# Altium integrated library Linear Technology Charge_Pump.IntLib: 599 symbols (part 26 of 29)
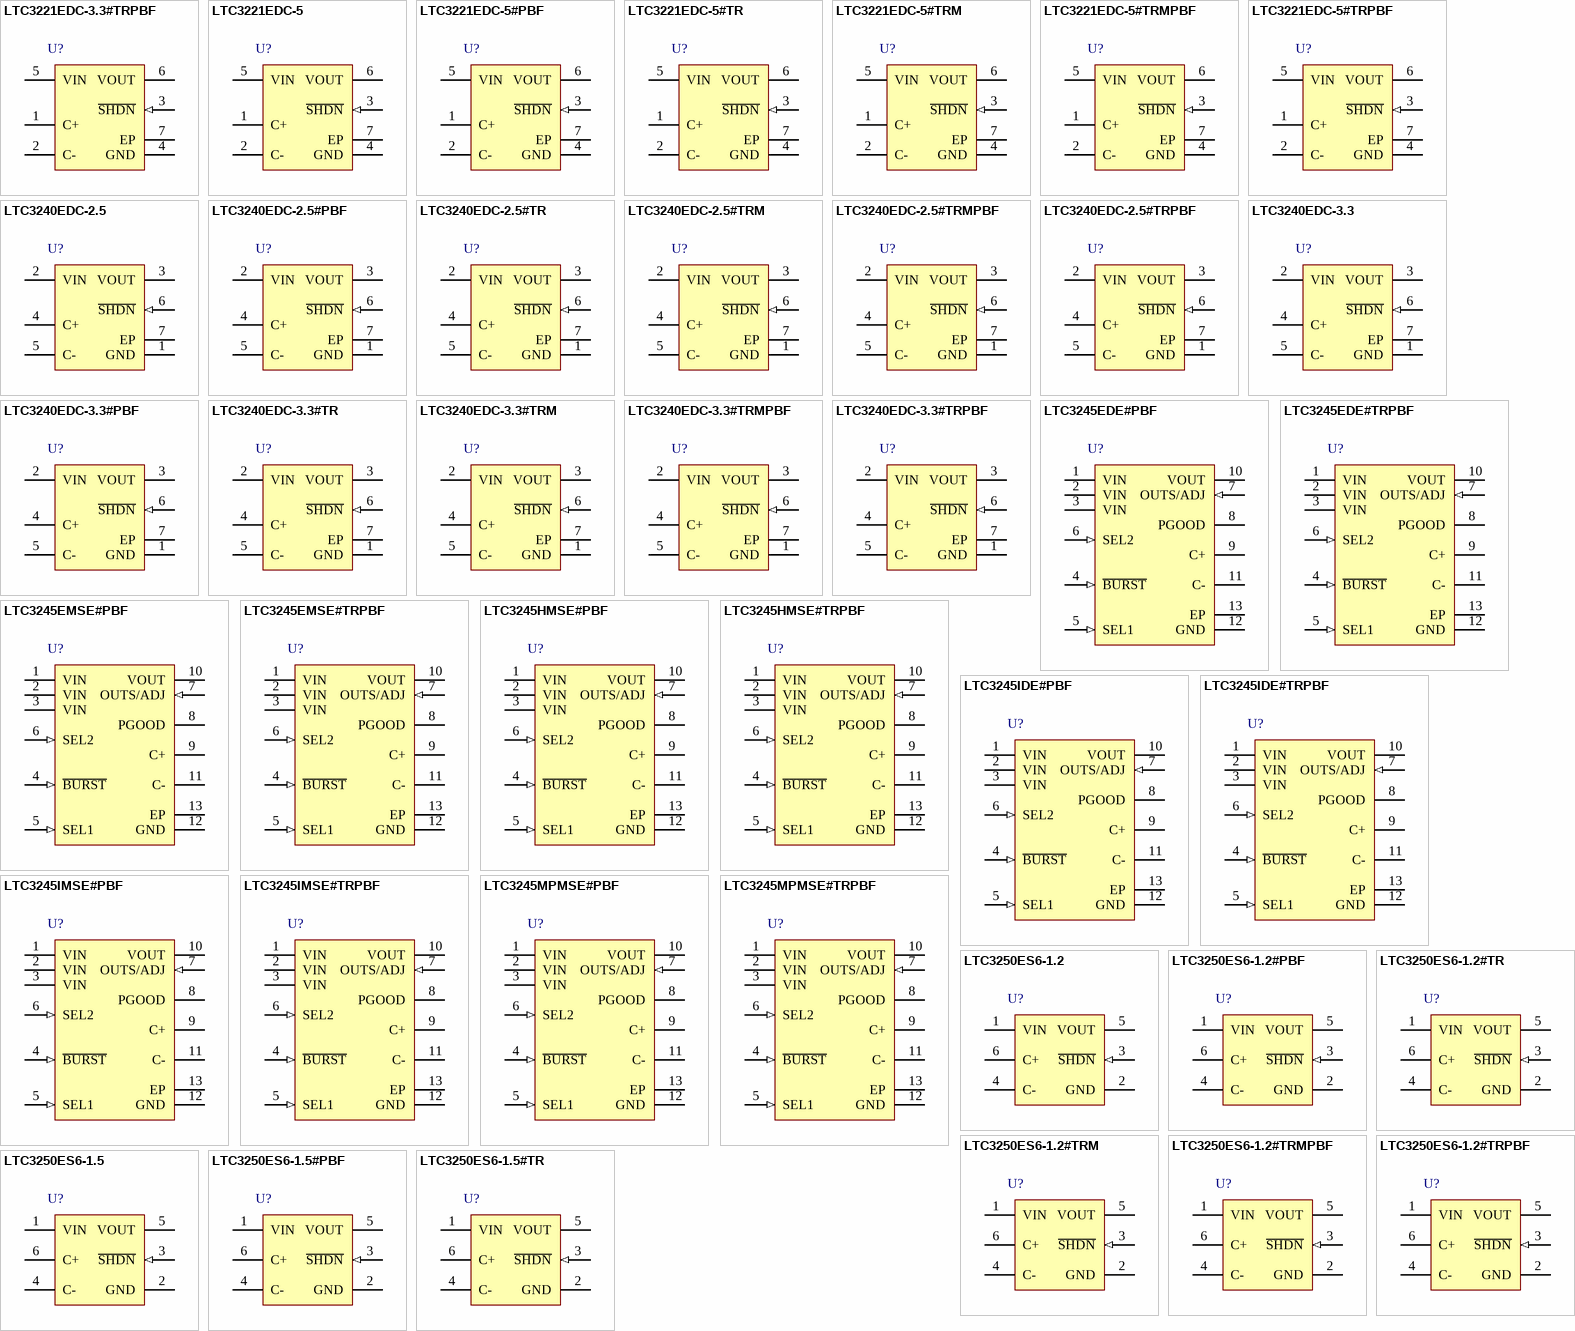
[diagram p41: symbols LTC3221EDC-3.3#TRPBF to LTC3250ES6-1.5#TR]

## LTC3245IMSE#PBF
designator U?
Wide VIN Range, Low Noise, 250 mA Buck-Boost Charge Pump, 2.7 to 38 V Vin, Fixed 3.3 / 5 V or Adjustable (2.5 to 5 V) Vout, 12-pin SOP (MSE-12-EDP), -40 to 125 degC, Pb-Free; Manufacturer: Linear Technology; PartNumber: LTC3245IMSE#PBF; Frequency(kHz): 450; Ishutdown(uA): 4; Isupply(mA): 0.018; Max Iout(mA): 250; Vin Max(V): 38; Vin Min(V): 2.7; Voutput: Fixed 3.3V, 5V or Adjustable (2.5V to 5V); DatasheetVersion: Rev. A; PackageVersion: Rev. G, 05/2013; PackageReference: MSE-12-EDP; PackageDescription: 12-Pin Plastic MSOP, Exposed Die Pad, Body 4.039 x 3 mm, Pitch 0.65 mm; Supplier 1: Digi-Key; Supplier Part Number 1: LTC3245IMSE#PBF-ND; Supplier 2: Farnell; Supplier Part Number 2: 2313439; Supplier 3: Newark; Supplier Part Number 3: 71W8458; RoHS: TRUE; Mounting Technology: Surface Mount; ComponentLink1Description: Manufacturer URL; ComponentLink1URL: http://www.linear.com/; ComponentLink2Description: Datasheet; ComponentLink2URL: http://cds.linear.com/docs/en/datasheet/3245fa.pdf; ComponentLink3Description: Package Specification; ComponentLink3URL: http://cds.linear.com/docs/en/packaging/05081666_G_MSE12.pdf
footprint LT-MSE-12-EDP_N (SOP, 12-Leads, Body 4.1x3.1mm, Pitch 0.65mm, Thermal Pad 2.95x1.76mm, IPC Medium Density)
footprint LT-MSE-12-EDP_L (SOP, 12-Leads, Body 4.1x3.1mm, Pitch 0.65mm, Thermal Pad 2.95x1.76mm, IPC High Density)
footprint LT-MSE-12-EDP_M (SOP, 12-Leads, Body 4.1x3.1mm, Pitch 0.65mm, Thermal Pad 2.95x1.76mm, IPC Low Density)
pins: 1 VIN (power) "Power Input Pins. Input voltage for both charge pump and IC control circuitry. The VIN pin operates from 2.7V to 38V. All VIN pins should be connected together at pins.", 2 VIN (power) "Power Input Pins. Input voltage for both charge pump and IC control circuitry. The VIN pin operates from 2.7V to 38V. All VIN pins should be connected together at pins.", 3 VIN (power) "Power Input Pins. Input voltage for both charge pump and IC control circuitry. The VIN pin operates from 2.7V to 38V. All VIN pins should be connected together at pins.", 4 ~{BURST} (in) "Burst Mode Logic Input. A logic high on the B\U\R\S\T\ pin operates the charge pump in low noise constant frequency. A logic low will operates the charge pump in Burst Mode operation for higher efficiency at low output (See Datasheet)", 5 SEL1 (in) "Logic Input Pin. See Table 1 for SEL1/SEL2 operating logic. The SEL1 pin has a 1uA (typical) pull-down current to ground and can tolerate 38V inputs allowing it to be pin-strapped to VIN.", 6 SEL2 (in) "Logic Input Pin. See Table 1 for SEL1/SEL2 operating logic. The SEL2 pin has a 1uA (typical) pull-down current to ground and can tolerate 38V inputs allowing it to be pin-strapped to VIN.", 7 OUTS/ADJ (in) "VOUT Sense / Adjust Input Pin. This pin acts as VOUT sense (OUTS) for 5V or 3.3V fixed outputs and adjust (ADJ) for adjustable output through external feedback. The ADJ pin servos to 1.2V when the device is enabled in (See Datasheet)", 8 PGOOD (hiz) "Power Good Open Drain Logic Output. The PGOOD pin goes high impedance when VOUT is about 6% of its final operating voltage. PGOOD is intended to be pulled up to VOUT or other low voltage supply with an external resistor.", 9 C+ "Flying Capacitor Positive Connection.", 10 VOUT (power) "Charge Pump Output Voltage. If VIN drops below its UVLO threshold, the connection from VIN becomes high impedance with no reverse leakage from VOUT to VIN. VOUT regulation only takes place above the UVLO threshold. VOUT can (See Datasheet)", 11 C- "Flying Capacitor Negative Connection.", 12 GND (power) "Ground. The exposed package pad is ground and must be soldered to the PC board ground plane for proper functionality and for rated thermal performance.", 13 EP (power) "Ground. The exposed package pad is ground and must be soldered to the PC board ground plane for proper functionality and for rated thermal performance."

## LTC3245IMSE#TRPBF
designator U?
Wide VIN Range, Low Noise, 250 mA Buck-Boost Charge Pump, 2.7 to 38 V Vin, Fixed 3.3 / 5 V or Adjustable (2.5 to 5 V) Vout, 12-pin SOP (MSE-12-EDP), -40 to 125 degC, Pb-Free, Tape and Reel; Manufacturer: Linear Technology; PartNumber: LTC3245IMSE#TRPBF; Frequency(kHz): 450; Ishutdown(uA): 4; Isupply(mA): 0.018; Max Iout(mA): 250; Vin Max(V): 38; Vin Min(V): 2.7; Voutput: Fixed 3.3V, 5V or Adjustable (2.5V to 5V); DatasheetVersion: Rev. A; PackageVersion: Rev. G, 05/2013; PackageReference: MSE-12-EDP; PackageDescription: 12-Pin Plastic MSOP, Exposed Die Pad, Body 4.039 x 3 mm, Pitch 0.65 mm; Supplier 1: Digi-Key; Supplier Part Number 1: LTC3245IMSE#TRPBF-ND; Supplier 2: Newark; Supplier Part Number 2: 71W8459; Packing: Tape and Reel; RoHS: TRUE; Mounting Technology: Surface Mount; ComponentLink1Description: Manufacturer URL; ComponentLink1URL: http://www.linear.com/; ComponentLink2Description: Datasheet; ComponentLink2URL: http://cds.linear.com/docs/en/datasheet/3245fa.pdf; ComponentLink3Description: Package Specification; ComponentLink3URL: http://cds.linear.com/docs/en/packaging/05081666_G_MSE12.pdf
footprint LT-MSE-12-EDP_N (SOP, 12-Leads, Body 4.1x3.1mm, Pitch 0.65mm, Thermal Pad 2.95x1.76mm, IPC Medium Density)
footprint LT-MSE-12-EDP_L (SOP, 12-Leads, Body 4.1x3.1mm, Pitch 0.65mm, Thermal Pad 2.95x1.76mm, IPC High Density)
footprint LT-MSE-12-EDP_M (SOP, 12-Leads, Body 4.1x3.1mm, Pitch 0.65mm, Thermal Pad 2.95x1.76mm, IPC Low Density)
pins: 1 VIN (power) "Power Input Pins. Input voltage for both charge pump and IC control circuitry. The VIN pin operates from 2.7V to 38V. All VIN pins should be connected together at pins.", 2 VIN (power) "Power Input Pins. Input voltage for both charge pump and IC control circuitry. The VIN pin operates from 2.7V to 38V. All VIN pins should be connected together at pins.", 3 VIN (power) "Power Input Pins. Input voltage for both charge pump and IC control circuitry. The VIN pin operates from 2.7V to 38V. All VIN pins should be connected together at pins.", 4 ~{BURST} (in) "Burst Mode Logic Input. A logic high on the B\U\R\S\T\ pin operates the charge pump in low noise constant frequency. A logic low will operates the charge pump in Burst Mode operation for higher efficiency at low output (See Datasheet)", 5 SEL1 (in) "Logic Input Pin. See Table 1 for SEL1/SEL2 operating logic. The SEL1 pin has a 1uA (typical) pull-down current to ground and can tolerate 38V inputs allowing it to be pin-strapped to VIN.", 6 SEL2 (in) "Logic Input Pin. See Table 1 for SEL1/SEL2 operating logic. The SEL2 pin has a 1uA (typical) pull-down current to ground and can tolerate 38V inputs allowing it to be pin-strapped to VIN.", 7 OUTS/ADJ (in) "VOUT Sense / Adjust Input Pin. This pin acts as VOUT sense (OUTS) for 5V or 3.3V fixed outputs and adjust (ADJ) for adjustable output through external feedback. The ADJ pin servos to 1.2V when the device is enabled in (See Datasheet)", 8 PGOOD (hiz) "Power Good Open Drain Logic Output. The PGOOD pin goes high impedance when VOUT is about 6% of its final operating voltage. PGOOD is intended to be pulled up to VOUT or other low voltage supply with an external resistor.", 9 C+ "Flying Capacitor Positive Connection.", 10 VOUT (power) "Charge Pump Output Voltage. If VIN drops below its UVLO threshold, the connection from VIN becomes high impedance with no reverse leakage from VOUT to VIN. VOUT regulation only takes place above the UVLO threshold. VOUT can (See Datasheet)", 11 C- "Flying Capacitor Negative Connection.", 12 GND (power) "Ground. The exposed package pad is ground and must be soldered to the PC board ground plane for proper functionality and for rated thermal performance.", 13 EP (power) "Ground. The exposed package pad is ground and must be soldered to the PC board ground plane for proper functionality and for rated thermal performance."

## LTC3245MPMSE#PBF
designator U?
Wide VIN Range, Low Noise, 250 mA Buck-Boost Charge Pump, 2.7 to 38 V Vin, Fixed 3.3 / 5 V or Adjustable (2.5 to 5 V) Vout, 12-pin SOP (MSE-12-EDP), -50 to 150 degC, Pb-Free; Manufacturer: Linear Technology; PartNumber: LTC3245MPMSE#PBF; Frequency(kHz): 450; Ishutdown(uA): 4; Isupply(mA): 0.018; Max Iout(mA): 250; Vin Max(V): 38; Vin Min(V): 2.7; Voutput: Fixed 3.3V, 5V or Adjustable (2.5V to 5V); DatasheetVersion: Rev. A; PackageVersion: Rev. G, 05/2013; PackageReference: MSE-12-EDP; PackageDescription: 12-Pin Plastic MSOP, Exposed Die Pad, Body 4.039 x 3 mm, Pitch 0.65 mm; Supplier 1: Digi-Key; Supplier Part Number 1: LTC3245MPMSE#PBF-ND; Supplier 2: Farnell; Supplier Part Number 2: 2313440; Supplier 3: Newark; Supplier Part Number 3: 87W6233; RoHS: TRUE; Mounting Technology: Surface Mount; ComponentLink1Description: Manufacturer URL; ComponentLink1URL: http://www.linear.com/; ComponentLink2Description: Datasheet; ComponentLink2URL: http://cds.linear.com/docs/en/datasheet/3245fa.pdf; ComponentLink3Description: Package Specification; ComponentLink3URL: http://cds.linear.com/docs/en/packaging/05081666_G_MSE12.pdf
footprint LT-MSE-12-EDP_N (SOP, 12-Leads, Body 4.1x3.1mm, Pitch 0.65mm, Thermal Pad 2.95x1.76mm, IPC Medium Density)
footprint LT-MSE-12-EDP_L (SOP, 12-Leads, Body 4.1x3.1mm, Pitch 0.65mm, Thermal Pad 2.95x1.76mm, IPC High Density)
footprint LT-MSE-12-EDP_M (SOP, 12-Leads, Body 4.1x3.1mm, Pitch 0.65mm, Thermal Pad 2.95x1.76mm, IPC Low Density)
pins: 1 VIN (power) "Power Input Pins. Input voltage for both charge pump and IC control circuitry. The VIN pin operates from 2.7V to 38V. All VIN pins should be connected together at pins.", 2 VIN (power) "Power Input Pins. Input voltage for both charge pump and IC control circuitry. The VIN pin operates from 2.7V to 38V. All VIN pins should be connected together at pins.", 3 VIN (power) "Power Input Pins. Input voltage for both charge pump and IC control circuitry. The VIN pin operates from 2.7V to 38V. All VIN pins should be connected together at pins.", 4 ~{BURST} (in) "Burst Mode Logic Input. A logic high on the B\U\R\S\T\ pin operates the charge pump in low noise constant frequency. A logic low will operates the charge pump in Burst Mode operation for higher efficiency at low output (See Datasheet)", 5 SEL1 (in) "Logic Input Pin. See Table 1 for SEL1/SEL2 operating logic. The SEL1 pin has a 1uA (typical) pull-down current to ground and can tolerate 38V inputs allowing it to be pin-strapped to VIN.", 6 SEL2 (in) "Logic Input Pin. See Table 1 for SEL1/SEL2 operating logic. The SEL2 pin has a 1uA (typical) pull-down current to ground and can tolerate 38V inputs allowing it to be pin-strapped to VIN.", 7 OUTS/ADJ (in) "VOUT Sense / Adjust Input Pin. This pin acts as VOUT sense (OUTS) for 5V or 3.3V fixed outputs and adjust (ADJ) for adjustable output through external feedback. The ADJ pin servos to 1.2V when the device is enabled in (See Datasheet)", 8 PGOOD (hiz) "Power Good Open Drain Logic Output. The PGOOD pin goes high impedance when VOUT is about 6% of its final operating voltage. PGOOD is intended to be pulled up to VOUT or other low voltage supply with an external resistor.", 9 C+ "Flying Capacitor Positive Connection.", 10 VOUT (power) "Charge Pump Output Voltage. If VIN drops below its UVLO threshold, the connection from VIN becomes high impedance with no reverse leakage from VOUT to VIN. VOUT regulation only takes place above the UVLO threshold. VOUT can (See Datasheet)", 11 C- "Flying Capacitor Negative Connection.", 12 GND (power) "Ground. The exposed package pad is ground and must be soldered to the PC board ground plane for proper functionality and for rated thermal performance.", 13 EP (power) "Ground. The exposed package pad is ground and must be soldered to the PC board ground plane for proper functionality and for rated thermal performance."

## LTC3245MPMSE#TRPBF
designator U?
Wide VIN Range, Low Noise, 250 mA Buck-Boost Charge Pump, 2.7 to 38 V Vin, Fixed 3.3 / 5 V or Adjustable (2.5 to 5 V) Vout, 12-pin SOP (MSE-12-EDP), -50 to 150 degC, Pb-Free, Tape and Reel; Manufacturer: Linear Technology; PartNumber: LTC3245MPMSE#TRPBF; Frequency(kHz): 450; Ishutdown(uA): 4; Isupply(mA): 0.018; Max Iout(mA): 250; Vin Max(V): 38; Vin Min(V): 2.7; Voutput: Fixed 3.3V, 5V or Adjustable (2.5V to 5V); DatasheetVersion: Rev. A; PackageVersion: Rev. G, 05/2013; PackageReference: MSE-12-EDP; PackageDescription: 12-Pin Plastic MSOP, Exposed Die Pad, Body 4.039 x 3 mm, Pitch 0.65 mm; Supplier 1: Digi-Key; Supplier Part Number 1: LTC3245MPMSE#TRPBF-ND; Supplier 2: Newark; Supplier Part Number 2: 87W6234; Packing: Tape and Reel; RoHS: TRUE; Mounting Technology: Surface Mount; ComponentLink1Description: Manufacturer URL; ComponentLink1URL: http://www.linear.com/; ComponentLink2Description: Datasheet; ComponentLink2URL: http://cds.linear.com/docs/en/datasheet/3245fa.pdf; ComponentLink3Description: Package Specification; ComponentLink3URL: http://cds.linear.com/docs/en/packaging/05081666_G_MSE12.pdf
footprint LT-MSE-12-EDP_N (SOP, 12-Leads, Body 4.1x3.1mm, Pitch 0.65mm, Thermal Pad 2.95x1.76mm, IPC Medium Density)
footprint LT-MSE-12-EDP_L (SOP, 12-Leads, Body 4.1x3.1mm, Pitch 0.65mm, Thermal Pad 2.95x1.76mm, IPC High Density)
footprint LT-MSE-12-EDP_M (SOP, 12-Leads, Body 4.1x3.1mm, Pitch 0.65mm, Thermal Pad 2.95x1.76mm, IPC Low Density)
pins: 1 VIN (power) "Power Input Pins. Input voltage for both charge pump and IC control circuitry. The VIN pin operates from 2.7V to 38V. All VIN pins should be connected together at pins.", 2 VIN (power) "Power Input Pins. Input voltage for both charge pump and IC control circuitry. The VIN pin operates from 2.7V to 38V. All VIN pins should be connected together at pins.", 3 VIN (power) "Power Input Pins. Input voltage for both charge pump and IC control circuitry. The VIN pin operates from 2.7V to 38V. All VIN pins should be connected together at pins.", 4 ~{BURST} (in) "Burst Mode Logic Input. A logic high on the B\U\R\S\T\ pin operates the charge pump in low noise constant frequency. A logic low will operates the charge pump in Burst Mode operation for higher efficiency at low output (See Datasheet)", 5 SEL1 (in) "Logic Input Pin. See Table 1 for SEL1/SEL2 operating logic. The SEL1 pin has a 1uA (typical) pull-down current to ground and can tolerate 38V inputs allowing it to be pin-strapped to VIN.", 6 SEL2 (in) "Logic Input Pin. See Table 1 for SEL1/SEL2 operating logic. The SEL2 pin has a 1uA (typical) pull-down current to ground and can tolerate 38V inputs allowing it to be pin-strapped to VIN.", 7 OUTS/ADJ (in) "VOUT Sense / Adjust Input Pin. This pin acts as VOUT sense (OUTS) for 5V or 3.3V fixed outputs and adjust (ADJ) for adjustable output through external feedback. The ADJ pin servos to 1.2V when the device is enabled in (See Datasheet)", 8 PGOOD (hiz) "Power Good Open Drain Logic Output. The PGOOD pin goes high impedance when VOUT is about 6% of its final operating voltage. PGOOD is intended to be pulled up to VOUT or other low voltage supply with an external resistor.", 9 C+ "Flying Capacitor Positive Connection.", 10 VOUT (power) "Charge Pump Output Voltage. If VIN drops below its UVLO threshold, the connection from VIN becomes high impedance with no reverse leakage from VOUT to VIN. VOUT regulation only takes place above the UVLO threshold. VOUT can (See Datasheet)", 11 C- "Flying Capacitor Negative Connection.", 12 GND (power) "Ground. The exposed package pad is ground and must be soldered to the PC board ground plane for proper functionality and for rated thermal performance.", 13 EP (power) "Ground. The exposed package pad is ground and must be soldered to the PC board ground plane for proper functionality and for rated thermal performance."

## LTC3250ES6-1.2
designator U?
High Efficiency, Low Noise, Inductorless Step-Down DC/DC Converter, 2.7 to 5.5 V Vin, 1.2 V Vout, 6-pin SOT23 (S6-6), -40 to 85 degC; Manufacturer: Linear Technology; PartNumber: LTC3250ES6-1.2; Frequency(kHz): 1500; Ishutdown(uA): 0.01; Isupply(mA): 0.035; Max Iout(mA): 250; Vin Max(V): 5.5; Vin Min(V): 2.7; Voutput: 1.2V; DatasheetVersion: Rev. A; PackageVersion: Jun-10; PackageReference: S6-6; PackageDescription: 6-Pin Plastic TSOT-23, Body 2.9 x 1.63 mm, Pitch 0.95 mm; RoHS: FALSE; Mounting Technology: Surface Mount; Code_JEDEC: MO-193; ComponentLink1Description: Manufacturer URL; ComponentLink1URL: http://www.linear.com/; ComponentLink2Description: Datasheet; ComponentLink2URL: http://cds.linear.com/docs/en/datasheet/3250fa.pdf; ComponentLink3Description: Package Specification; ComponentLink3URL: http://cds.linear.com/docs/en/packaging/SOT_6_05-08-1636.pdf
footprint LT-S6-6-TSOT-23_N (SOT23, 6-Leads, Body 2.9x1.75mm, Pitch 0.95mm, IPC Medium Density)
footprint LT-S6-6-TSOT-23_L (SOT23, 6-Leads, Body 2.9x1.75mm, Pitch 0.95mm, IPC High Density)
footprint LT-S6-6-TSOT-23_M (SOT23, 6-Leads, Body 2.9x1.75mm, Pitch 0.95mm, IPC Low Density)
pins: 1 VIN (power) "Input Supply Voltage. Bypass VIN with a >=1uF low ESR ceramic capacitor.", 2 GND (power) "Ground. Connect to a ground plane for best performance.", 3 ~{SHDN} (in) "Active Low Shutdown Input. A low voltage on S\H\D\N\ disables the LTC3250-1.5/LTC3250-1.2. S\H\D\N\ must not be allowed to float", 4 C- "Flying Capacitor Negative Terminal", 5 VOUT (power) "Regulated Output Voltage. VOUT is disconnected from VIN during shutdown. Bypass VOUT with a >=4.7uF low ESR ceramic capacitor (2.5uF min, ESR<100mohm).", 6 C+ "Flying Capacitor Positive Terminal."

## LTC3250ES6-1.2#PBF
designator U?
High Efficiency, Low Noise, Inductorless Step-Down DC/DC Converter, 2.7 to 5.5 V Vin, 1.2 V Vout, 6-pin SOT23 (S6-6), -40 to 85 degC, Pb-Free; Manufacturer: Linear Technology; PartNumber: LTC3250ES6-1.2#PBF; Frequency(kHz): 1500; Ishutdown(uA): 0.01; Isupply(mA): 0.035; Max Iout(mA): 250; Vin Max(V): 5.5; Vin Min(V): 2.7; Voutput: 1.2V; DatasheetVersion: Rev. A; PackageVersion: Jun-10; PackageReference: S6-6; PackageDescription: 6-Pin Plastic TSOT-23, Body 2.9 x 1.63 mm, Pitch 0.95 mm; RoHS: TRUE; Mounting Technology: Surface Mount; Code_JEDEC: MO-193; ComponentLink1Description: Manufacturer URL; ComponentLink1URL: http://www.linear.com/; ComponentLink2Description: Datasheet; ComponentLink2URL: http://cds.linear.com/docs/en/datasheet/3250fa.pdf; ComponentLink3Description: Package Specification; ComponentLink3URL: http://cds.linear.com/docs/en/packaging/SOT_6_05-08-1636.pdf
footprint LT-S6-6-TSOT-23_N (SOT23, 6-Leads, Body 2.9x1.75mm, Pitch 0.95mm, IPC Medium Density)
footprint LT-S6-6-TSOT-23_L (SOT23, 6-Leads, Body 2.9x1.75mm, Pitch 0.95mm, IPC High Density)
footprint LT-S6-6-TSOT-23_M (SOT23, 6-Leads, Body 2.9x1.75mm, Pitch 0.95mm, IPC Low Density)
pins: 1 VIN (power) "Input Supply Voltage. Bypass VIN with a >=1uF low ESR ceramic capacitor.", 2 GND (power) "Ground. Connect to a ground plane for best performance.", 3 ~{SHDN} (in) "Active Low Shutdown Input. A low voltage on S\H\D\N\ disables the LTC3250-1.5/LTC3250-1.2. S\H\D\N\ must not be allowed to float", 4 C- "Flying Capacitor Negative Terminal", 5 VOUT (power) "Regulated Output Voltage. VOUT is disconnected from VIN during shutdown. Bypass VOUT with a >=4.7uF low ESR ceramic capacitor (2.5uF min, ESR<100mohm).", 6 C+ "Flying Capacitor Positive Terminal."

## LTC3250ES6-1.2#TR
designator U?
High Efficiency, Low Noise, Inductorless Step-Down DC/DC Converter, 2.7 to 5.5 V Vin, 1.2 V Vout, 6-pin SOT23 (S6-6), -40 to 85 degC, Tape and Reel; Manufacturer: Linear Technology; PartNumber: LTC3250ES6-1.2#TR; Frequency(kHz): 1500; Ishutdown(uA): 0.01; Isupply(mA): 0.035; Max Iout(mA): 250; Vin Max(V): 5.5; Vin Min(V): 2.7; Voutput: 1.2V; DatasheetVersion: Rev. A; PackageVersion: Jun-10; PackageReference: S6-6; PackageDescription: 6-Pin Plastic TSOT-23, Body 2.9 x 1.63 mm, Pitch 0.95 mm; Supplier 1: Digi-Key; Supplier Part Number 1: LTC3250ES6-1.2#TR-ND; Packing: Tape and Reel; RoHS: FALSE; Mounting Technology: Surface Mount; Code_JEDEC: MO-193; ComponentLink1Description: Manufacturer URL; ComponentLink1URL: http://www.linear.com/; ComponentLink2Description: Datasheet; ComponentLink2URL: http://cds.linear.com/docs/en/datasheet/3250fa.pdf; ComponentLink3Description: Package Specification; ComponentLink3URL: http://cds.linear.com/docs/en/packaging/SOT_6_05-08-1636.pdf
footprint LT-S6-6-TSOT-23_N (SOT23, 6-Leads, Body 2.9x1.75mm, Pitch 0.95mm, IPC Medium Density)
footprint LT-S6-6-TSOT-23_L (SOT23, 6-Leads, Body 2.9x1.75mm, Pitch 0.95mm, IPC High Density)
footprint LT-S6-6-TSOT-23_M (SOT23, 6-Leads, Body 2.9x1.75mm, Pitch 0.95mm, IPC Low Density)
pins: 1 VIN (power) "Input Supply Voltage. Bypass VIN with a >=1uF low ESR ceramic capacitor.", 2 GND (power) "Ground. Connect to a ground plane for best performance.", 3 ~{SHDN} (in) "Active Low Shutdown Input. A low voltage on S\H\D\N\ disables the LTC3250-1.5/LTC3250-1.2. S\H\D\N\ must not be allowed to float", 4 C- "Flying Capacitor Negative Terminal", 5 VOUT (power) "Regulated Output Voltage. VOUT is disconnected from VIN during shutdown. Bypass VOUT with a >=4.7uF low ESR ceramic capacitor (2.5uF min, ESR<100mohm).", 6 C+ "Flying Capacitor Positive Terminal."

## LTC3250ES6-1.2#TRM
designator U?
High Efficiency, Low Noise, Inductorless Step-Down DC/DC Converter, 2.7 to 5.5 V Vin, 1.2 V Vout, 6-pin SOT23 (S6-6), -40 to 85 degC, Mini Tape and Reel; Manufacturer: Linear Technology; PartNumber: LTC3250ES6-1.2#TRM; Frequency(kHz): 1500; Ishutdown(uA): 0.01; Isupply(mA): 0.035; Max Iout(mA): 250; Vin Max(V): 5.5; Vin Min(V): 2.7; Voutput: 1.2V; DatasheetVersion: Rev. A; PackageVersion: Jun-10; PackageReference: S6-6; PackageDescription: 6-Pin Plastic TSOT-23, Body 2.9 x 1.63 mm, Pitch 0.95 mm; Supplier 1: Digi-Key; Supplier Part Number 1: LTC3250ES6-1.2#TRM-ND; Packing: Mini Tape and Reel; RoHS: FALSE; Mounting Technology: Surface Mount; Code_JEDEC: MO-193; ComponentLink1Description: Manufacturer URL; ComponentLink1URL: http://www.linear.com/; ComponentLink2Description: Datasheet; ComponentLink2URL: http://cds.linear.com/docs/en/datasheet/3250fa.pdf; ComponentLink3Description: Package Specification; ComponentLink3URL: http://cds.linear.com/docs/en/packaging/SOT_6_05-08-1636.pdf
footprint LT-S6-6-TSOT-23_N (SOT23, 6-Leads, Body 2.9x1.75mm, Pitch 0.95mm, IPC Medium Density)
footprint LT-S6-6-TSOT-23_L (SOT23, 6-Leads, Body 2.9x1.75mm, Pitch 0.95mm, IPC High Density)
footprint LT-S6-6-TSOT-23_M (SOT23, 6-Leads, Body 2.9x1.75mm, Pitch 0.95mm, IPC Low Density)
pins: 1 VIN (power) "Input Supply Voltage. Bypass VIN with a >=1uF low ESR ceramic capacitor.", 2 GND (power) "Ground. Connect to a ground plane for best performance.", 3 ~{SHDN} (in) "Active Low Shutdown Input. A low voltage on S\H\D\N\ disables the LTC3250-1.5/LTC3250-1.2. S\H\D\N\ must not be allowed to float", 4 C- "Flying Capacitor Negative Terminal", 5 VOUT (power) "Regulated Output Voltage. VOUT is disconnected from VIN during shutdown. Bypass VOUT with a >=4.7uF low ESR ceramic capacitor (2.5uF min, ESR<100mohm).", 6 C+ "Flying Capacitor Positive Terminal."

## LTC3250ES6-1.2#TRMPBF
designator U?
High Efficiency, Low Noise, Inductorless Step-Down DC/DC Converter, 2.7 to 5.5 V Vin, 1.2 V Vout, 6-pin SOT23 (S6-6), -40 to 85 degC, Pb-Free, Mini Tape and Reel; Manufacturer: Linear Technology; PartNumber: LTC3250ES6-1.2#TRMPBF; Frequency(kHz): 1500; Ishutdown(uA): 0.01; Isupply(mA): 0.035; Max Iout(mA): 250; Vin Max(V): 5.5; Vin Min(V): 2.7; Voutput: 1.2V; DatasheetVersion: Rev. A; PackageVersion: Jun-10; PackageReference: S6-6; PackageDescription: 6-Pin Plastic TSOT-23, Body 2.9 x 1.63 mm, Pitch 0.95 mm; Supplier 1: Digi-Key; Supplier Part Number 1: LTC3250ES6-1.2#TRMPBF-ND; Packing: Mini Tape and Reel; RoHS: TRUE; Mounting Technology: Surface Mount; Code_JEDEC: MO-193; ComponentLink1Description: Manufacturer URL; ComponentLink1URL: http://www.linear.com/; ComponentLink2Description: Datasheet; ComponentLink2URL: http://cds.linear.com/docs/en/datasheet/3250fa.pdf; ComponentLink3Description: Package Specification; ComponentLink3URL: http://cds.linear.com/docs/en/packaging/SOT_6_05-08-1636.pdf
footprint LT-S6-6-TSOT-23_N (SOT23, 6-Leads, Body 2.9x1.75mm, Pitch 0.95mm, IPC Medium Density)
footprint LT-S6-6-TSOT-23_L (SOT23, 6-Leads, Body 2.9x1.75mm, Pitch 0.95mm, IPC High Density)
footprint LT-S6-6-TSOT-23_M (SOT23, 6-Leads, Body 2.9x1.75mm, Pitch 0.95mm, IPC Low Density)
pins: 1 VIN (power) "Input Supply Voltage. Bypass VIN with a >=1uF low ESR ceramic capacitor.", 2 GND (power) "Ground. Connect to a ground plane for best performance.", 3 ~{SHDN} (in) "Active Low Shutdown Input. A low voltage on S\H\D\N\ disables the LTC3250-1.5/LTC3250-1.2. S\H\D\N\ must not be allowed to float", 4 C- "Flying Capacitor Negative Terminal", 5 VOUT (power) "Regulated Output Voltage. VOUT is disconnected from VIN during shutdown. Bypass VOUT with a >=4.7uF low ESR ceramic capacitor (2.5uF min, ESR<100mohm).", 6 C+ "Flying Capacitor Positive Terminal."

## LTC3250ES6-1.2#TRPBF
designator U?
High Efficiency, Low Noise, Inductorless Step-Down DC/DC Converter, 2.7 to 5.5 V Vin, 1.2 V Vout, 6-pin SOT23 (S6-6), -40 to 85 degC, Pb-Free, Tape and Reel; Manufacturer: Linear Technology; PartNumber: LTC3250ES6-1.2#TRPBF; Frequency(kHz): 1500; Ishutdown(uA): 0.01; Isupply(mA): 0.035; Max Iout(mA): 250; Vin Max(V): 5.5; Vin Min(V): 2.7; Voutput: 1.2V; DatasheetVersion: Rev. A; PackageVersion: Jun-10; PackageReference: S6-6; PackageDescription: 6-Pin Plastic TSOT-23, Body 2.9 x 1.63 mm, Pitch 0.95 mm; Supplier 1: Digi-Key; Supplier Part Number 1: LTC3250ES6-1.2#TRPBF-ND; Packing: Tape and Reel; RoHS: TRUE; Mounting Technology: Surface Mount; Code_JEDEC: MO-193; ComponentLink1Description: Manufacturer URL; ComponentLink1URL: http://www.linear.com/; ComponentLink2Description: Datasheet; ComponentLink2URL: http://cds.linear.com/docs/en/datasheet/3250fa.pdf; ComponentLink3Description: Package Specification; ComponentLink3URL: http://cds.linear.com/docs/en/packaging/SOT_6_05-08-1636.pdf
footprint LT-S6-6-TSOT-23_N (SOT23, 6-Leads, Body 2.9x1.75mm, Pitch 0.95mm, IPC Medium Density)
footprint LT-S6-6-TSOT-23_L (SOT23, 6-Leads, Body 2.9x1.75mm, Pitch 0.95mm, IPC High Density)
footprint LT-S6-6-TSOT-23_M (SOT23, 6-Leads, Body 2.9x1.75mm, Pitch 0.95mm, IPC Low Density)
pins: 1 VIN (power) "Input Supply Voltage. Bypass VIN with a >=1uF low ESR ceramic capacitor.", 2 GND (power) "Ground. Connect to a ground plane for best performance.", 3 ~{SHDN} (in) "Active Low Shutdown Input. A low voltage on S\H\D\N\ disables the LTC3250-1.5/LTC3250-1.2. S\H\D\N\ must not be allowed to float", 4 C- "Flying Capacitor Negative Terminal", 5 VOUT (power) "Regulated Output Voltage. VOUT is disconnected from VIN during shutdown. Bypass VOUT with a >=4.7uF low ESR ceramic capacitor (2.5uF min, ESR<100mohm).", 6 C+ "Flying Capacitor Positive Terminal."

## LTC3250ES6-1.5
designator U?
High Efficiency, Low Noise, Inductorless Step-Down DC/DC Converter, 3.1 to 5.5 V Vin, 1.5 V Vout, 6-pin SOT23 (S6-6), -40 to 85 degC; Manufacturer: Linear Technology; PartNumber: LTC3250ES6-1.5; Frequency(kHz): 1500; Ishutdown(uA): 0.01; Isupply(mA): 0.035; Max Iout(mA): 250; Vin Max(V): 5.5; Vin Min(V): 3.1; Voutput: 1.5V; DatasheetVersion: Rev. A; PackageVersion: Jun-10; PackageReference: S6-6; PackageDescription: 6-Pin Plastic TSOT-23, Body 2.9 x 1.63 mm, Pitch 0.95 mm; RoHS: FALSE; Mounting Technology: Surface Mount; Code_JEDEC: MO-193; ComponentLink1Description: Manufacturer URL; ComponentLink1URL: http://www.linear.com/; ComponentLink2Description: Datasheet; ComponentLink2URL: http://cds.linear.com/docs/en/datasheet/3250fa.pdf; ComponentLink3Description: Package Specification; ComponentLink3URL: http://cds.linear.com/docs/en/packaging/SOT_6_05-08-1636.pdf
footprint LT-S6-6-TSOT-23_N (SOT23, 6-Leads, Body 2.9x1.75mm, Pitch 0.95mm, IPC Medium Density)
footprint LT-S6-6-TSOT-23_L (SOT23, 6-Leads, Body 2.9x1.75mm, Pitch 0.95mm, IPC High Density)
footprint LT-S6-6-TSOT-23_M (SOT23, 6-Leads, Body 2.9x1.75mm, Pitch 0.95mm, IPC Low Density)
pins: 1 VIN (power) "Input Supply Voltage. Bypass VIN with a >=1uF low ESR ceramic capacitor.", 2 GND (power) "Ground. Connect to a ground plane for best performance.", 3 ~{SHDN} (in) "Active Low Shutdown Input. A low voltage on S\H\D\N\ disables the LTC3250-1.5/LTC3250-1.2. S\H\D\N\ must not be allowed to float", 4 C- "Flying Capacitor Negative Terminal", 5 VOUT (power) "Regulated Output Voltage. VOUT is disconnected from VIN during shutdown. Bypass VOUT with a >=4.7uF low ESR ceramic capacitor (2.5uF min, ESR<100mohm).", 6 C+ "Flying Capacitor Positive Terminal."

## LTC3250ES6-1.5#PBF
designator U?
High Efficiency, Low Noise, Inductorless Step-Down DC/DC Converter, 3.1 to 5.5 V Vin, 1.5 V Vout, 6-pin SOT23 (S6-6), -40 to 85 degC, Pb-Free; Manufacturer: Linear Technology; PartNumber: LTC3250ES6-1.5#PBF; Frequency(kHz): 1500; Ishutdown(uA): 0.01; Isupply(mA): 0.035; Max Iout(mA): 250; Vin Max(V): 5.5; Vin Min(V): 3.1; Voutput: 1.5V; DatasheetVersion: Rev. A; PackageVersion: Jun-10; PackageReference: S6-6; PackageDescription: 6-Pin Plastic TSOT-23, Body 2.9 x 1.63 mm, Pitch 0.95 mm; RoHS: TRUE; Mounting Technology: Surface Mount; Code_JEDEC: MO-193; ComponentLink1Description: Manufacturer URL; ComponentLink1URL: http://www.linear.com/; ComponentLink2Description: Datasheet; ComponentLink2URL: http://cds.linear.com/docs/en/datasheet/3250fa.pdf; ComponentLink3Description: Package Specification; ComponentLink3URL: http://cds.linear.com/docs/en/packaging/SOT_6_05-08-1636.pdf
footprint LT-S6-6-TSOT-23_N (SOT23, 6-Leads, Body 2.9x1.75mm, Pitch 0.95mm, IPC Medium Density)
footprint LT-S6-6-TSOT-23_L (SOT23, 6-Leads, Body 2.9x1.75mm, Pitch 0.95mm, IPC High Density)
footprint LT-S6-6-TSOT-23_M (SOT23, 6-Leads, Body 2.9x1.75mm, Pitch 0.95mm, IPC Low Density)
pins: 1 VIN (power) "Input Supply Voltage. Bypass VIN with a >=1uF low ESR ceramic capacitor.", 2 GND (power) "Ground. Connect to a ground plane for best performance.", 3 ~{SHDN} (in) "Active Low Shutdown Input. A low voltage on S\H\D\N\ disables the LTC3250-1.5/LTC3250-1.2. S\H\D\N\ must not be allowed to float", 4 C- "Flying Capacitor Negative Terminal", 5 VOUT (power) "Regulated Output Voltage. VOUT is disconnected from VIN during shutdown. Bypass VOUT with a >=4.7uF low ESR ceramic capacitor (2.5uF min, ESR<100mohm).", 6 C+ "Flying Capacitor Positive Terminal."

## LTC3250ES6-1.5#TR
designator U?
High Efficiency, Low Noise, Inductorless Step-Down DC/DC Converter, 3.1 to 5.5 V Vin, 1.5 V Vout, 6-pin SOT23 (S6-6), -40 to 85 degC, Tape and Reel; Manufacturer: Linear Technology; PartNumber: LTC3250ES6-1.5#TR; Frequency(kHz): 1500; Ishutdown(uA): 0.01; Isupply(mA): 0.035; Max Iout(mA): 250; Vin Max(V): 5.5; Vin Min(V): 3.1; Voutput: 1.5V; DatasheetVersion: Rev. A; PackageVersion: Jun-10; PackageReference: S6-6; PackageDescription: 6-Pin Plastic TSOT-23, Body 2.9 x 1.63 mm, Pitch 0.95 mm; Supplier 1: Digi-Key; Supplier Part Number 1: LTC3250ES6-1.5TR-ND; Packing: Tape and Reel; RoHS: FALSE; Mounting Technology: Surface Mount; Code_JEDEC: MO-193; ComponentLink1Description: Manufacturer URL; ComponentLink1URL: http://www.linear.com/; ComponentLink2Description: Datasheet; ComponentLink2URL: http://cds.linear.com/docs/en/datasheet/3250fa.pdf; ComponentLink3Description: Package Specification; ComponentLink3URL: http://cds.linear.com/docs/en/packaging/SOT_6_05-08-1636.pdf
footprint LT-S6-6-TSOT-23_N (SOT23, 6-Leads, Body 2.9x1.75mm, Pitch 0.95mm, IPC Medium Density)
footprint LT-S6-6-TSOT-23_L (SOT23, 6-Leads, Body 2.9x1.75mm, Pitch 0.95mm, IPC High Density)
footprint LT-S6-6-TSOT-23_M (SOT23, 6-Leads, Body 2.9x1.75mm, Pitch 0.95mm, IPC Low Density)
pins: 1 VIN (power) "Input Supply Voltage. Bypass VIN with a >=1uF low ESR ceramic capacitor.", 2 GND (power) "Ground. Connect to a ground plane for best performance.", 3 ~{SHDN} (in) "Active Low Shutdown Input. A low voltage on S\H\D\N\ disables the LTC3250-1.5/LTC3250-1.2. S\H\D\N\ must not be allowed to float", 4 C- "Flying Capacitor Negative Terminal", 5 VOUT (power) "Regulated Output Voltage. VOUT is disconnected from VIN during shutdown. Bypass VOUT with a >=4.7uF low ESR ceramic capacitor (2.5uF min, ESR<100mohm).", 6 C+ "Flying Capacitor Positive Terminal."

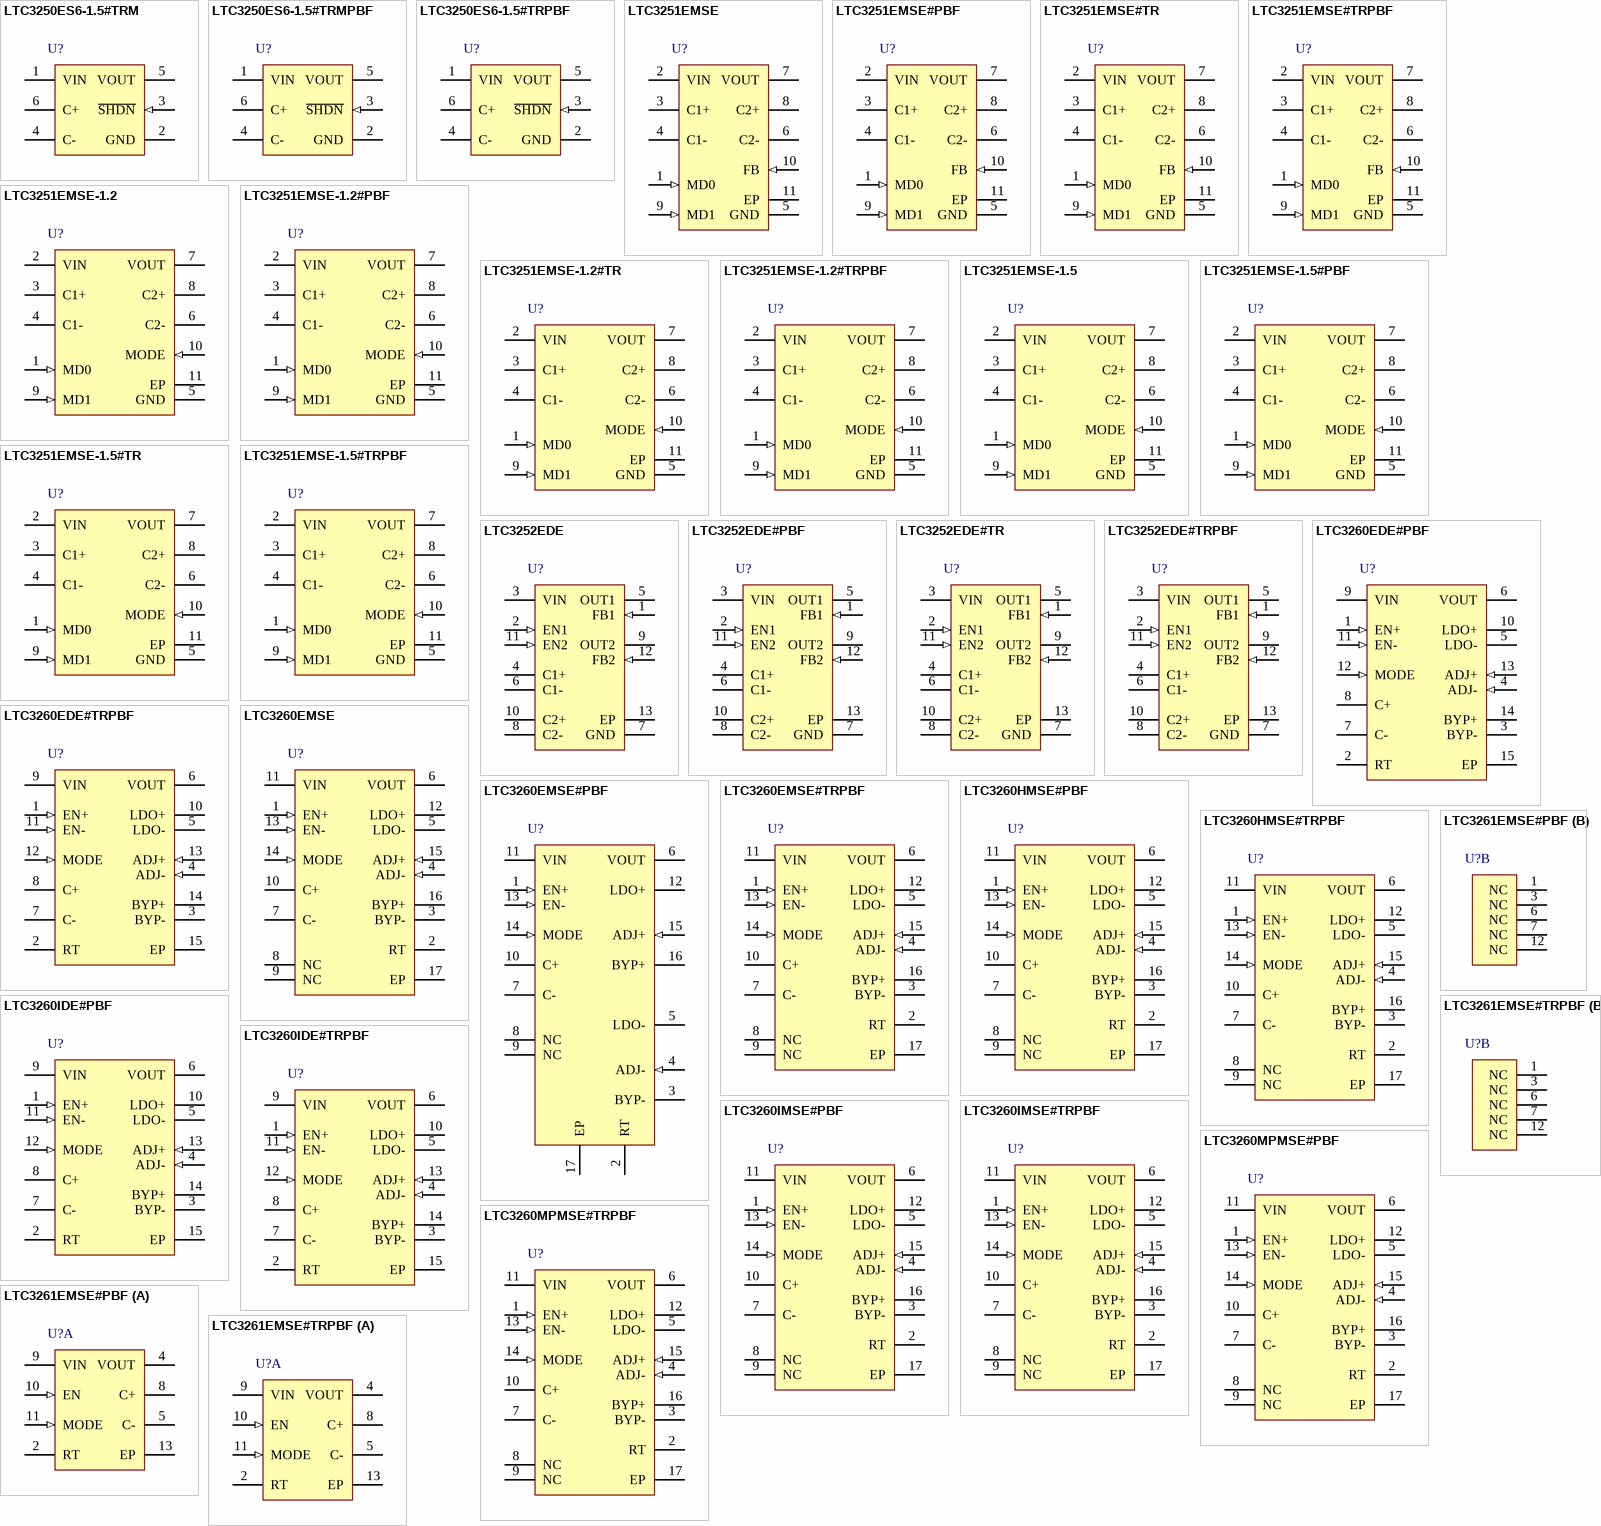
[diagram p15: symbols LTC3250ES6-1.5#TRM to LTC3261EMSE#TRPBF]

## LTC3250ES6-1.5#TRM
designator U?
High Efficiency, Low Noise, Inductorless Step-Down DC/DC Converter, 3.1 to 5.5 V Vin, 1.5 V Vout, 6-pin SOT23 (S6-6), -40 to 85 degC, Mini Tape and Reel; Manufacturer: Linear Technology; PartNumber: LTC3250ES6-1.5#TRM; Frequency(kHz): 1500; Ishutdown(uA): 0.01; Isupply(mA): 0.035; Max Iout(mA): 250; Vin Max(V): 5.5; Vin Min(V): 3.1; Voutput: 1.5V; DatasheetVersion: Rev. A; PackageVersion: Jun-10; PackageReference: S6-6; PackageDescription: 6-Pin Plastic TSOT-23, Body 2.9 x 1.63 mm, Pitch 0.95 mm; Supplier 1: Digi-Key; Supplier Part Number 1: LTC3250ES6-1.5#TRMCT-ND; Packing: Mini Tape and Reel; RoHS: FALSE; Mounting Technology: Surface Mount; Code_JEDEC: MO-193; ComponentLink1Description: Manufacturer URL; ComponentLink1URL: http://www.linear.com/; ComponentLink2Description: Datasheet; ComponentLink2URL: http://cds.linear.com/docs/en/datasheet/3250fa.pdf; ComponentLink3Description: Package Specification; ComponentLink3URL: http://cds.linear.com/docs/en/packaging/SOT_6_05-08-1636.pdf
footprint LT-S6-6-TSOT-23_N (SOT23, 6-Leads, Body 2.9x1.75mm, Pitch 0.95mm, IPC Medium Density)
footprint LT-S6-6-TSOT-23_L (SOT23, 6-Leads, Body 2.9x1.75mm, Pitch 0.95mm, IPC High Density)
footprint LT-S6-6-TSOT-23_M (SOT23, 6-Leads, Body 2.9x1.75mm, Pitch 0.95mm, IPC Low Density)
pins: 1 VIN (power) "Input Supply Voltage. Bypass VIN with a >=1uF low ESR ceramic capacitor.", 2 GND (power) "Ground. Connect to a ground plane for best performance.", 3 ~{SHDN} (in) "Active Low Shutdown Input. A low voltage on S\H\D\N\ disables the LTC3250-1.5/LTC3250-1.2. S\H\D\N\ must not be allowed to float", 4 C- "Flying Capacitor Negative Terminal", 5 VOUT (power) "Regulated Output Voltage. VOUT is disconnected from VIN during shutdown. Bypass VOUT with a >=4.7uF low ESR ceramic capacitor (2.5uF min, ESR<100mohm).", 6 C+ "Flying Capacitor Positive Terminal."

## LTC3250ES6-1.5#TRMPBF
designator U?
High Efficiency, Low Noise, Inductorless Step-Down DC/DC Converter, 3.1 to 5.5 V Vin, 1.5 V Vout, 6-pin SOT23 (S6-6), -40 to 85 degC, Pb-Free, Mini Tape and Reel; Manufacturer: Linear Technology; PartNumber: LTC3250ES6-1.5#TRMPBF; Frequency(kHz): 1500; Ishutdown(uA): 0.01; Isupply(mA): 0.035; Max Iout(mA): 250; Vin Max(V): 5.5; Vin Min(V): 3.1; Voutput: 1.5V; DatasheetVersion: Rev. A; PackageVersion: Jun-10; PackageReference: S6-6; PackageDescription: 6-Pin Plastic TSOT-23, Body 2.9 x 1.63 mm, Pitch 0.95 mm; Supplier 1: Digi-Key; Supplier Part Number 1: LTC3250ES6-1.5#TRMPBFTR-ND; Supplier 2: Digi-Key; Supplier Part Number 2: LTC3250ES6-1.5#TRMPBFCT-ND; Supplier 3: Digi-Key; Supplier Part Number 3: LTC3250ES6-1.5#TRMPBFDKR-ND; Packing: Mini Tape and Reel; RoHS: TRUE; Mounting Technology: Surface Mount; Code_JEDEC: MO-193; ComponentLink1Description: Manufacturer URL; ComponentLink1URL: http://www.linear.com/; ComponentLink2Description: Datasheet; ComponentLink2URL: http://cds.linear.com/docs/en/datasheet/3250fa.pdf; ComponentLink3Description: Package Specification; ComponentLink3URL: http://cds.linear.com/docs/en/packaging/SOT_6_05-08-1636.pdf
footprint LT-S6-6-TSOT-23_N (SOT23, 6-Leads, Body 2.9x1.75mm, Pitch 0.95mm, IPC Medium Density)
footprint LT-S6-6-TSOT-23_L (SOT23, 6-Leads, Body 2.9x1.75mm, Pitch 0.95mm, IPC High Density)
footprint LT-S6-6-TSOT-23_M (SOT23, 6-Leads, Body 2.9x1.75mm, Pitch 0.95mm, IPC Low Density)
pins: 1 VIN (power) "Input Supply Voltage. Bypass VIN with a >=1uF low ESR ceramic capacitor.", 2 GND (power) "Ground. Connect to a ground plane for best performance.", 3 ~{SHDN} (in) "Active Low Shutdown Input. A low voltage on S\H\D\N\ disables the LTC3250-1.5/LTC3250-1.2. S\H\D\N\ must not be allowed to float", 4 C- "Flying Capacitor Negative Terminal", 5 VOUT (power) "Regulated Output Voltage. VOUT is disconnected from VIN during shutdown. Bypass VOUT with a >=4.7uF low ESR ceramic capacitor (2.5uF min, ESR<100mohm).", 6 C+ "Flying Capacitor Positive Terminal."

## LTC3250ES6-1.5#TRPBF
designator U?
High Efficiency, Low Noise, Inductorless Step-Down DC/DC Converter, 3.1 to 5.5 V Vin, 1.5 V Vout, 6-pin SOT23 (S6-6), -40 to 85 degC, Pb-Free, Tape and Reel; Manufacturer: Linear Technology; PartNumber: LTC3250ES6-1.5#TRPBF; Frequency(kHz): 1500; Ishutdown(uA): 0.01; Isupply(mA): 0.035; Max Iout(mA): 250; Vin Max(V): 5.5; Vin Min(V): 3.1; Voutput: 1.5V; DatasheetVersion: Rev. A; PackageVersion: Jun-10; PackageReference: S6-6; PackageDescription: 6-Pin Plastic TSOT-23, Body 2.9 x 1.63 mm, Pitch 0.95 mm; Supplier 1: Digi-Key; Supplier Part Number 1: LTC3250ES6-1.5#TRPBF-ND; Packing: Tape and Reel; RoHS: TRUE; Mounting Technology: Surface Mount; Code_JEDEC: MO-193; ComponentLink1Description: Manufacturer URL; ComponentLink1URL: http://www.linear.com/; ComponentLink2Description: Datasheet; ComponentLink2URL: http://cds.linear.com/docs/en/datasheet/3250fa.pdf; ComponentLink3Description: Package Specification; ComponentLink3URL: http://cds.linear.com/docs/en/packaging/SOT_6_05-08-1636.pdf
footprint LT-S6-6-TSOT-23_N (SOT23, 6-Leads, Body 2.9x1.75mm, Pitch 0.95mm, IPC Medium Density)
footprint LT-S6-6-TSOT-23_L (SOT23, 6-Leads, Body 2.9x1.75mm, Pitch 0.95mm, IPC High Density)
footprint LT-S6-6-TSOT-23_M (SOT23, 6-Leads, Body 2.9x1.75mm, Pitch 0.95mm, IPC Low Density)
pins: 1 VIN (power) "Input Supply Voltage. Bypass VIN with a >=1uF low ESR ceramic capacitor.", 2 GND (power) "Ground. Connect to a ground plane for best performance.", 3 ~{SHDN} (in) "Active Low Shutdown Input. A low voltage on S\H\D\N\ disables the LTC3250-1.5/LTC3250-1.2. S\H\D\N\ must not be allowed to float", 4 C- "Flying Capacitor Negative Terminal", 5 VOUT (power) "Regulated Output Voltage. VOUT is disconnected from VIN during shutdown. Bypass VOUT with a >=4.7uF low ESR ceramic capacitor (2.5uF min, ESR<100mohm).", 6 C+ "Flying Capacitor Positive Terminal."

## LTC3251EMSE
designator U?
500 mA High Efficiency, Low Noise, Inductorless Step-Down DC/DC Converter, 2.7 to 5.5 V Vin, Adjustable Vout, 10-pin SOP (MSE-10-EDP), -40 to 85 degC; Manufacturer: Linear Technology; PartNumber: LTC3251EMSE; Frequency(kHz): 1600; Ishutdown(uA): 0.01; Vin Max(V): 5.5; Vin Min(V): 2.7; Voutput: Adj; DatasheetVersion: Rev. B; PackageVersion: Rev. C, 08/2009; PackageReference: MSE-10; PackageDescription: 10-Pin Plastic MSOP, Exposed Die Pad, Body 3 x 3 mm, Pitch 0.5 mm; Supplier 1: Digi-Key; Supplier Part Number 1: LTC3251EMSE-ND; Isupply(mA): 0.01; RoHS: FALSE; Mounting Technology: Surface Mount; ComponentLink1Description: Manufacturer URL; ComponentLink1URL: http://www.linear.com/; ComponentLink2Description: Datasheet; ComponentLink2URL: http://cds.linear.com/docs/en/datasheet/32511215fb.pdf; ComponentLink3Description: Package Specification; ComponentLink3URL: http://cds.linear.com/docs/en/datasheet/3481fc.pdf
footprint LT-MSE-10-EDP-2060x1830TP_N (SOP, 10-Leads, Body 3.1x3.1mm, Pitch 0.5mm, Thermal Pad 2.17x1.94mm, IPC Medium Density)
footprint LT-MSE-10-EDP-2060x1830TP_L (SOP, 10-Leads, Body 3.1x3.1mm, Pitch 0.5mm, Thermal Pad 2.17x1.94mm, IPC High Density)
footprint LT-MSE-10-EDP-2060x1830TP_M (SOP, 10-Leads, Body 3.1x3.1mm, Pitch 0.5mm, Thermal Pad 2.17x1.94mm, IPC Low Density)
pins: 1 MD0 (in) "Switching Mode Input Pins. The Mode input pins are used to set the operating mode of the LTC3251.", 2 VIN (power) "Input Supply Voltage. Operating VIN may be between 2.7V and 5.5V. Bypass VIN with a >=1uF low ESR ceramic capacitor to GND (COUT).", 3 C1+ "Flying Capacitor 1 Positive Terminal (C1).", 4 C1- "Flying Capacitor 1 Negative Terminal (C1).", 5 GND (power) "Ground. Connect to a ground plane for best performance.", 6 C2- "Flying Capacitor 2 Negative Terminal (C2).", 7 VOUT (power) "Regulated Output Voltage. VOUT is disconnected from VIN during shutdown. Bypass VOUT with a low ESR ceramic capacitor to GND (CIN). See VOUT Capacitor Selection for capacitor size requirements.", 8 C2+ "Flying Capacitor 2 Positive Terminal (C2).", 9 MD1 (in) "Switching Mode Input Pins. The Mode input pins are used to set the operating mode of the LTC3251.", 10 FB (in) "Feedback Input Pin. An output divider should be connected from VOUT to FB to program the output voltage.", 11 EP (power)

## LTC3251EMSE#PBF
designator U?
500 mA High Efficiency, Low Noise, Inductorless Step-Down DC/DC Converter, 2.7 to 5.5 V Vin, Adjustable Vout, 10-pin SOP (MSE-10-EDP), -40 to 85 degC, Pb-Free; Manufacturer: Linear Technology; PartNumber: LTC3251EMSE#PBF; Frequency(kHz): 1600; Ishutdown(uA): 0.01; Vin Max(V): 5.5; Vin Min(V): 2.7; Voutput: Adj; DatasheetVersion: Rev. B; PackageVersion: Rev. C, 08/2009; PackageReference: MSE-10; PackageDescription: 10-Pin Plastic MSOP, Exposed Die Pad, Body 3 x 3 mm, Pitch 0.5 mm; Supplier 1: Digi-Key; Supplier Part Number 1: LTC3251EMSE#PBF-ND; Supplier 2: Farnell; Supplier Part Number 2: 2295025; Supplier 3: Newark; Supplier Part Number 3: 56M7475; Isupply(mA): 0.01; RoHS: TRUE; Mounting Technology: Surface Mount; ComponentLink1Description: Manufacturer URL; ComponentLink1URL: http://www.linear.com/; ComponentLink2Description: Datasheet; ComponentLink2URL: http://cds.linear.com/docs/en/datasheet/32511215fb.pdf; ComponentLink3Description: Package Specification; ComponentLink3URL: http://cds.linear.com/docs/en/datasheet/3481fc.pdf
footprint LT-MSE-10-EDP-2060x1830TP_N (SOP, 10-Leads, Body 3.1x3.1mm, Pitch 0.5mm, Thermal Pad 2.17x1.94mm, IPC Medium Density)
footprint LT-MSE-10-EDP-2060x1830TP_L (SOP, 10-Leads, Body 3.1x3.1mm, Pitch 0.5mm, Thermal Pad 2.17x1.94mm, IPC High Density)
footprint LT-MSE-10-EDP-2060x1830TP_M (SOP, 10-Leads, Body 3.1x3.1mm, Pitch 0.5mm, Thermal Pad 2.17x1.94mm, IPC Low Density)
pins: 1 MD0 (in) "Switching Mode Input Pins. The Mode input pins are used to set the operating mode of the LTC3251.", 2 VIN (power) "Input Supply Voltage. Operating VIN may be between 2.7V and 5.5V. Bypass VIN with a >=1uF low ESR ceramic capacitor to GND (COUT).", 3 C1+ "Flying Capacitor 1 Positive Terminal (C1).", 4 C1- "Flying Capacitor 1 Negative Terminal (C1).", 5 GND (power) "Ground. Connect to a ground plane for best performance.", 6 C2- "Flying Capacitor 2 Negative Terminal (C2).", 7 VOUT (power) "Regulated Output Voltage. VOUT is disconnected from VIN during shutdown. Bypass VOUT with a low ESR ceramic capacitor to GND (CIN). See VOUT Capacitor Selection for capacitor size requirements.", 8 C2+ "Flying Capacitor 2 Positive Terminal (C2).", 9 MD1 (in) "Switching Mode Input Pins. The Mode input pins are used to set the operating mode of the LTC3251.", 10 FB (in) "Feedback Input Pin. An output divider should be connected from VOUT to FB to program the output voltage.", 11 EP (power)

## LTC3251EMSE#TR
designator U?
500 mA High Efficiency, Low Noise, Inductorless Step-Down DC/DC Converter, 2.7 to 5.5 V Vin, Adjustable Vout, 10-pin SOP (MSE-10-EDP), -40 to 85 degC, Tape and Reel; Manufacturer: Linear Technology; PartNumber: LTC3251EMSE#TR; Frequency(kHz): 1600; Ishutdown(uA): 0.01; Vin Max(V): 5.5; Vin Min(V): 2.7; Voutput: Adj; DatasheetVersion: Rev. B; PackageVersion: Rev. C, 08/2009; PackageReference: MSE-10; PackageDescription: 10-Pin Plastic MSOP, Exposed Die Pad, Body 3 x 3 mm, Pitch 0.5 mm; Supplier 1: Digi-Key; Supplier Part Number 1: LTC3251EMSE#TR-ND; Isupply(mA): 0.01; Packing: Tape and Reel; RoHS: FALSE; Mounting Technology: Surface Mount; ComponentLink1Description: Manufacturer URL; ComponentLink1URL: http://www.linear.com/; ComponentLink2Description: Datasheet; ComponentLink2URL: http://cds.linear.com/docs/en/datasheet/32511215fb.pdf; ComponentLink3Description: Package Specification; ComponentLink3URL: http://cds.linear.com/docs/en/datasheet/3481fc.pdf
footprint LT-MSE-10-EDP-2060x1830TP_N (SOP, 10-Leads, Body 3.1x3.1mm, Pitch 0.5mm, Thermal Pad 2.17x1.94mm, IPC Medium Density)
footprint LT-MSE-10-EDP-2060x1830TP_L (SOP, 10-Leads, Body 3.1x3.1mm, Pitch 0.5mm, Thermal Pad 2.17x1.94mm, IPC High Density)
footprint LT-MSE-10-EDP-2060x1830TP_M (SOP, 10-Leads, Body 3.1x3.1mm, Pitch 0.5mm, Thermal Pad 2.17x1.94mm, IPC Low Density)
pins: 1 MD0 (in) "Switching Mode Input Pins. The Mode input pins are used to set the operating mode of the LTC3251.", 2 VIN (power) "Input Supply Voltage. Operating VIN may be between 2.7V and 5.5V. Bypass VIN with a >=1uF low ESR ceramic capacitor to GND (COUT).", 3 C1+ "Flying Capacitor 1 Positive Terminal (C1).", 4 C1- "Flying Capacitor 1 Negative Terminal (C1).", 5 GND (power) "Ground. Connect to a ground plane for best performance.", 6 C2- "Flying Capacitor 2 Negative Terminal (C2).", 7 VOUT (power) "Regulated Output Voltage. VOUT is disconnected from VIN during shutdown. Bypass VOUT with a low ESR ceramic capacitor to GND (CIN). See VOUT Capacitor Selection for capacitor size requirements.", 8 C2+ "Flying Capacitor 2 Positive Terminal (C2).", 9 MD1 (in) "Switching Mode Input Pins. The Mode input pins are used to set the operating mode of the LTC3251.", 10 FB (in) "Feedback Input Pin. An output divider should be connected from VOUT to FB to program the output voltage.", 11 EP (power)

## LTC3251EMSE#TRPBF
designator U?
500 mA High Efficiency, Low Noise, Inductorless Step-Down DC/DC Converter, 2.7 to 5.5 V Vin, Adjustable Vout, 10-pin SOP (MSE-10-EDP), -40 to 85 degC, Pb-Free, Tape and Reel; Manufacturer: Linear Technology; PartNumber: LTC3251EMSE#TRPBF; Frequency(kHz): 1600; Ishutdown(uA): 0.01; Vin Max(V): 5.5; Vin Min(V): 2.7; Voutput: Adj; DatasheetVersion: Rev. B; PackageVersion: Rev. C, 08/2009; PackageReference: MSE-10; PackageDescription: 10-Pin Plastic MSOP, Exposed Die Pad, Body 3 x 3 mm, Pitch 0.5 mm; Supplier 1: Digi-Key; Supplier Part Number 1: LTC3251EMSE#TRPBF-ND; Isupply(mA): 0.01; Packing: Tape and Reel; RoHS: TRUE; Mounting Technology: Surface Mount; ComponentLink1Description: Manufacturer URL; ComponentLink1URL: http://www.linear.com/; ComponentLink2Description: Datasheet; ComponentLink2URL: http://cds.linear.com/docs/en/datasheet/32511215fb.pdf; ComponentLink3Description: Package Specification; ComponentLink3URL: http://cds.linear.com/docs/en/datasheet/3481fc.pdf
footprint LT-MSE-10-EDP-2060x1830TP_N (SOP, 10-Leads, Body 3.1x3.1mm, Pitch 0.5mm, Thermal Pad 2.17x1.94mm, IPC Medium Density)
footprint LT-MSE-10-EDP-2060x1830TP_L (SOP, 10-Leads, Body 3.1x3.1mm, Pitch 0.5mm, Thermal Pad 2.17x1.94mm, IPC High Density)
footprint LT-MSE-10-EDP-2060x1830TP_M (SOP, 10-Leads, Body 3.1x3.1mm, Pitch 0.5mm, Thermal Pad 2.17x1.94mm, IPC Low Density)
pins: 1 MD0 (in) "Switching Mode Input Pins. The Mode input pins are used to set the operating mode of the LTC3251.", 2 VIN (power) "Input Supply Voltage. Operating VIN may be between 2.7V and 5.5V. Bypass VIN with a >=1uF low ESR ceramic capacitor to GND (COUT).", 3 C1+ "Flying Capacitor 1 Positive Terminal (C1).", 4 C1- "Flying Capacitor 1 Negative Terminal (C1).", 5 GND (power) "Ground. Connect to a ground plane for best performance.", 6 C2- "Flying Capacitor 2 Negative Terminal (C2).", 7 VOUT (power) "Regulated Output Voltage. VOUT is disconnected from VIN during shutdown. Bypass VOUT with a low ESR ceramic capacitor to GND (CIN). See VOUT Capacitor Selection for capacitor size requirements.", 8 C2+ "Flying Capacitor 2 Positive Terminal (C2).", 9 MD1 (in) "Switching Mode Input Pins. The Mode input pins are used to set the operating mode of the LTC3251.", 10 FB (in) "Feedback Input Pin. An output divider should be connected from VOUT to FB to program the output voltage.", 11 EP (power)